# Altium schematic symbol library CUHZ16V,H3F.SchLib: 1 symbol
Pins are listed as number, name and electrical type; pins without a type are passive.

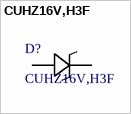
[diagram p0: symbol CUHZ16V,H3F]

## CUHZ16V,H3F
designator D?
16 V TVS Diode, SOD-323HE(US2H); Manufacturer_Name: Toshiba Electronic Devices & Storage Corp.; Copyright: Copyright (C) 2025 Ultra Librarian. All rights reserved.; Manufacturer_Part_Number: CUHZ16V,H3F
footprint SOD-323HEUS2H_TOS
pins: 1 CATHODE, 2 ANODE